# Altium schematic symbol library SamacSys.SchLib: 101 symbols (part 2 of 2)
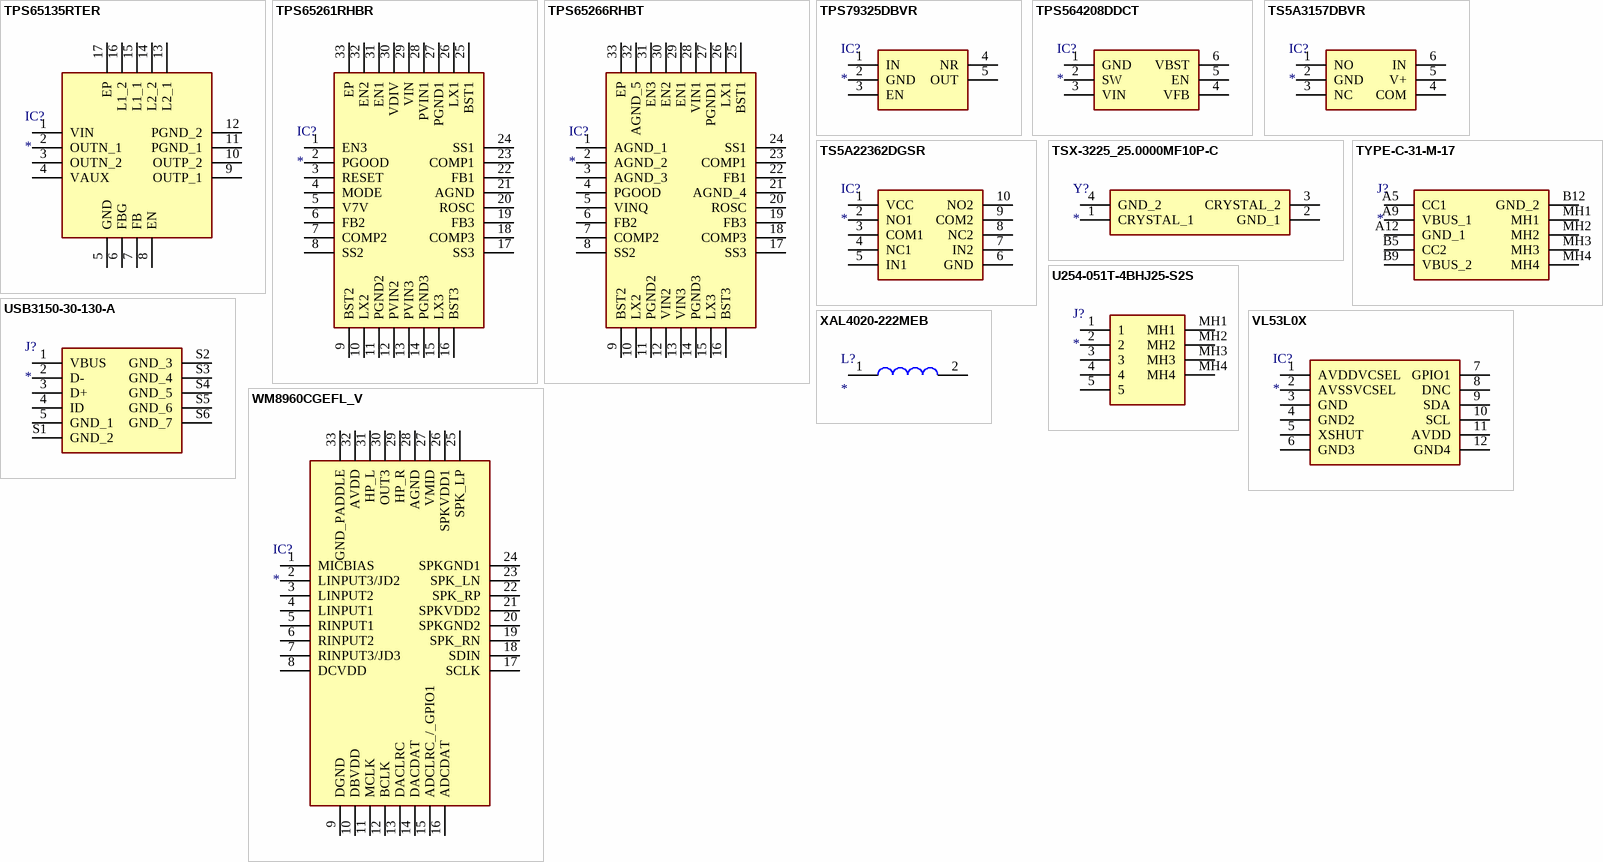
[diagram p4: symbols TPS65135RTER to XAL4020-222MEB]

## TPS65266RHBT
designator IC?
Integrated Circuit; Manufacturer_Name: Texas Instruments; Manufacturer_Part_Number: TPS65266RHBT; Datasheet Link: http://www.ti.com/lit/gpn/TPS65266; Height: 1mm; Mouser Part Number: 595-TPS65266RHBT; Mouser Price/Stock: https://www.mouser.com/Search/Refine.aspx?Keyword=595-TPS65266RHBT
footprint QFN50P500X500X100-33N-D
pins: 1 AGND_1, 2 AGND_2, 3 AGND_3, 4 PGOOD, 5 VINQ, 6 FB2, 7 COMP2, 8 SS2, 9 BST2, 10 LX2, 11 PGND2, 12 VIN2, 13 VIN3, 14 PGND3, 15 LX3, 16 BST3, 17 SS3, 18 COMP3, 19 FB3, 20 ROSC, 21 AGND_4, 22 FB1, 23 COMP1, 24 SS1, 25 BST1, 26 LX1, 27 PGND1, 28 VIN1, 29 EN1, 30 EN2, 31 EN3, 32 AGND_5, 33 EP

## TPS79325DBVR
designator IC?
Integrated Circuit; Manufacturer_Name: Texas Instruments; Manufacturer_Part_Number: TPS79325DBVR; Datasheet Link: http://www.ti.com/lit/gpn/tps793; Height: 1.45mm; Mouser Part Number: 595-TPS79325DBVR; Mouser Price/Stock: https://www.mouser.com/Search/Refine.aspx?Keyword=595-TPS79325DBVR; RS Part Number: 6614481P; RS Price/Stock: http://uk.rs-online.com/web/p/products/6614481P
footprint SOT95P280X145-5N
pins: 1 IN, 2 GND, 3 EN, 4 NR, 5 OUT

## TPS564208DDCT
designator IC?
Integrated Circuit; Manufacturer_Name: Texas Instruments; Manufacturer_Part_Number: TPS564208DDCT; Datasheet Link: http://www.ti.com/lit/ds/symlink/tps564208.pdf; Height: 1.1mm; Mouser Part Number: 595-TPS564208DDCT; Mouser Price/Stock: https://www.mouser.com/Search/Refine.aspx?Keyword=595-TPS564208DDCT; RS Part Number: 1330753P; RS Price/Stock: http://uk.rs-online.com/web/p/products/1330753P
footprint SOT95P280X110-6N
pins: 1 GND, 2 SW, 3 VIN, 4 VFB, 5 EN, 6 VBST

## TS5A3157DBVR
designator IC?
Integrated Circuit; Manufacturer_Name: Texas Instruments; Manufacturer_Part_Number: TS5A3157DBVR; Datasheet Link: http://www.ti.com/general/docs/lit/getliterature.tsp?genericPartNumber=ts5a3157&fileType=pdf; Height: 1.45mm; Arrow Part Number: TS5A3157DBVR; Arrow Price/Stock: https://www.arrow.com/en/products/ts5a3157dbvr/texas-instruments; Mouser Part Number: 595-TS5A3157DBVR; Mouser Price/Stock: https://www.mouser.co.uk/ProductDetail/Texas-Instruments/TS5A3157DBVR?qs=0O%2FZFlpUpJUE%2F9RUWXxdeQ%3D%3D
footprint SOT95P280X145-6N
pins: 1 NO, 2 GND, 3 NC, 4 COM, 5 V+, 6 IN

## TS5A22362DGSR
designator IC?
Integrated Circuit; Manufacturer_Name: Texas Instruments; Manufacturer_Part_Number: TS5A22362DGSR; Datasheet Link: http://componentsearchengine.com/Datasheets/3/TS5A22362DGSR.pdf; Height: 1.1mm; Arrow Part Number: TS5A22362DGSR; Arrow Price/Stock: https://www.arrow.com/en/products/ts5a22362dgsr/texas-instruments; Mouser Part Number: 595-TS5A22362DGSR; Mouser Price/Stock: https://www.mouser.com/Search/Refine.aspx?Keyword=595-TS5A22362DGSR
footprint SOP50P490X110-10N
pins: 1 VCC, 2 NO1, 3 COM1, 4 NC1, 5 IN1, 6 GND, 7 IN2, 8 NC2, 9 COM2, 10 NO2

## TSX-3225_25.0000MF10P-C
designator Y?
Crystal or Oscillator; Manufacturer_Name: Epson Timing; Manufacturer_Part_Number: TSX-3225 25.0000MF10P-C; Datasheet Link: https://componentsearchengine.com/Datasheets/1/TSX-3225 25.0000MF10P-C.pdf; Height: 0.6mm; Mouser Part Number: 732-322525MF10P-C; Mouser Price/Stock: https://www.mouser.co.uk/ProductDetail/Epson-Timing/TSX-3225-250000MF10P-C?qs=%252B0hcjpVv37ps984o2uLjvA%3D%3D; Arrow Part Number: TSX-3225 25.0000MF10P-C; Arrow Price/Stock: https://www.arrow.com/en/products/tsx-322525.0000mf10p-c/epson-electronics-america
footprint TSX3225250000MF10PC
pins: 1 CRYSTAL_1, 2 GND_1, 3 CRYSTAL_2, 4 GND_2

## TYPE-C-31-M-17
designator J?
Connector; Manufacturer_Name: Korean Hroparts Elec; Manufacturer_Part_Number: TYPE-C-31-M-17; Datasheet Link: https://datasheet.lcsc.com/szlcsc/1903211732_Korean-Hroparts-Elec-TYPE-C-31-M-17_C283540.pdf; Height: 3.26mm
footprint TYPEC31M17
pins: A5 CC1, A9 VBUS_1, A12 GND_1, B5 CC2, B9 VBUS_2, B12 GND_2, MH1, MH2, MH3, MH4

## U254-051T-4BHJ25-S2S
designator J?
Connector; Manufacturer_Name: XKB Enterprise; Manufacturer_Part_Number: U254-051T-4BHJ25-S2S; Datasheet Link: https://datasheet.lcsc.com/szlcsc/2002271812_XKB-Enterprise-U254-051T-4BHJ25-S2S_C319163.pdf; Height: 2.9mm
footprint U254051T4BHJ25S2S
pins: 1, 2, 3, 4, 5, MH1, MH2, MH3, MH4

## USB3150-30-130-A
designator J?
Connector; Manufacturer_Name: GLOBAL CONNECTOR TECHNOLOGY; Manufacturer_Part_Number: USB3150-30-130-A; Datasheet Link: https://gct.co/files/drawings/usb3150.pdf; Height: 7.23mm
footprint USB315030130A
pins: 1 VBUS, 2 D-, 3 D+, 4 ID, 5 GND_1, S1 GND_2, S2 GND_3, S3 GND_4, S4 GND_5, S5 GND_6, S6 GND_7

## VL53L0X
designator IC?
Integrated Circuit; Manufacturer_Name: STMicroelectronics; Manufacturer_Part_Number: VL53L0X; Datasheet Link: https://www.mouser.com/ds/2/389/vl53l0x-1156212.pdf; Height: 1mm
footprint VL53L0X
pins: 1 AVDDVCSEL, 2 AVSSVCSEL, 3 GND, 4 GND2, 5 XSHUT, 6 GND3, 7 GPIO1, 8 DNC, 9 SDA, 10 SCL, 11 AVDD, 12 GND4

## WM8960CGEFL_V
designator IC?
Integrated Circuit; Manufacturer_Name: Cirrus Logic; Manufacturer_Part_Number: WM8960CGEFL/V; Datasheet Link: https://componentsearchengine.com/Datasheets/1/WM8960CGEFL_V.pdf; Height: 1mm; Mouser Part Number: 238-WM8960CGEFL/V; Mouser Price/Stock: https://www.mouser.com/Search/Refine.aspx?Keyword=238-WM8960CGEFL%2FV
footprint QFN50P500X500X100-33N
pins: 1 MICBIAS, 2 LINPUT3/JD2, 3 LINPUT2, 4 LINPUT1, 5 RINPUT1, 6 RINPUT2, 7 RINPUT3/JD3, 8 DCVDD, 9 DGND, 10 DBVDD, 11 MCLK, 12 BCLK, 13 DACLRC, 14 DACDAT, 15 ADCLRC_/_GPIO1, 16 ADCDAT, 17 SCLK, 18 SDIN, 19 SPK_RN, 20 SPKGND2, 21 SPKVDD2, 22 SPK_RP, 23 SPK_LN, 24 SPKGND1, 25 SPK_LP, 26 SPKVDD1, 27 VMID, 28 AGND, 29 HP_R, 30 OUT3, 31 HP_L, 32 AVDD, 33 GND_PADDLE

## XAL4020-222MEB
designator L?
Inductor; Manufacturer_Name: COILCRAFT; Manufacturer_Part_Number: XAL4020-222MEB; Datasheet Link: http://www.coilcraft.com/pdfs/xal4000.pdf; Height: 2.1mm; Mouser Part Number: 994-XAL4020-222MEB; Mouser Price/Stock: https://www.mouser.com/Search/Refine.aspx?Keyword=994-XAL4020-222MEB
footprint INDPM3240X210N
pins: 1, 2